# Altium schematic symbol library CP2102N-A01-GQFN28.Schlib: 1 symbol
Pins are listed as number, name and electrical type; pins without a type are passive.

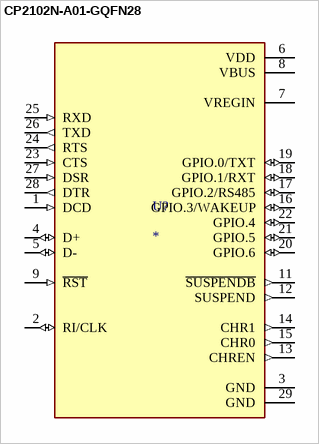
[diagram p0: symbol CP2102N-A01-GQFN28]

## CP2102N-A01-GQFN28
designator U?
Ic Bridge Usb To Uart 28qfn; MP: CP2102N-A01-GQFN28; MF: {'manufacturer': u'Silicon Labs'}; Value: *; Package: None; Price: None; Availability: Unavailable; LCSC Part #: C105167; JLCPCB Part Type: Extended; ComponentLink1Description: LCSc - SILICON LABS CP2102N-A01-GQFN28R; ComponentLink1URL: https://lcsc.com/product-detail/USB_SILICON-LABS_CP2102N-A01-GQFN28_CP2102N-A01-GQFN28_C105167.html/?href=jlc-SMT
footprint QFN50P500X500X80-29N
pins: 1 DCD (in), 2 RI/CLK (io), 3 GND (power), 4 D+ (io), 5 D- (io), 6 VDD (power), 7 VREGIN (power), 8 VBUS (power), 9 ~{RST} (in), 11 ~{SUSPENDB} (out), 12 SUSPEND (out), 13 CHREN (out), 14 CHR1 (out), 15 CHR0 (out), 16 GPIO.3/WAKEUP (io), 17 GPIO.2/RS485 (io), 18 GPIO.1/RXT (io), 19 GPIO.0/TXT (io), 20 GPIO.6 (io), 21 GPIO.5 (io), 22 GPIO.4 (io), 23 CTS (in), 24 RTS (out), 25 RXD (in), 26 TXD (out), 27 DSR (in), 28 DTR (out), 29 GND (power)